# EAGLE library part TC2030-CLIP (library citysensor)
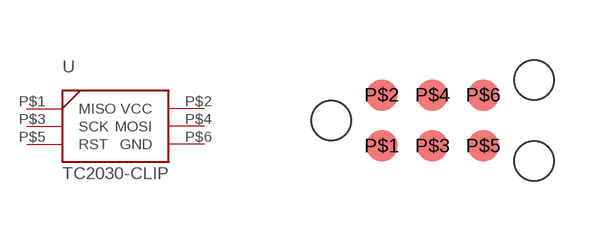
[diagram p1: symbol with the pads of TC2030-CLIP; footprint TC2030-CLIP]

Designator prefix -

## TC2030-CLIP  [TC2030-CLIP]
P$1  MISO
P$2  VCC  pwr
P$3  SCK
P$4  MOSI
P$5  RST
P$6  GND  pwr

## Footprint TC2030-CLIP (pad centres in mm)
smd 0.787 x 0.787: P$1 1.27,-0.635; P$2 1.27,0.635; P$3 2.54,-0.635; P$4 2.54,0.635; P$5 3.81,-0.635; P$6 3.81,0.635
hole 0.991 at 0,0
hole 0.991 at 5.08,1.016
hole 0.991 at 5.08,-1.016